# EAGLE library part AK7401 (library my library)
Non-contact magnetic encoder
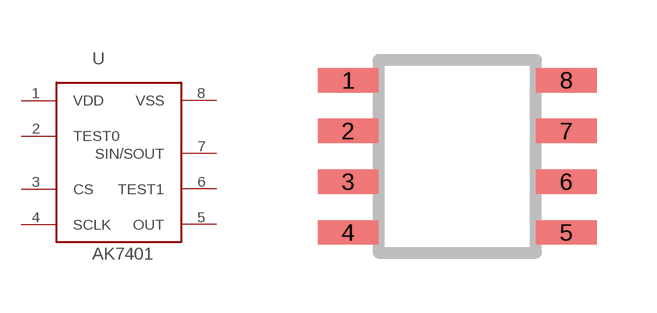
[diagram p3: symbol with the pads of SOIC-8; footprint SOIC-8]

Designator prefix -

## AK7401  [SOIC-8]
1  VDD
2  TEST0
3  CS
4  SCLK
5  OUT
6  TEST1
7  SIN/SOUT
8  VSS

## Footprint SOIC-8 (pad centres in mm)
smd 1.524 x 0.61: 1 0,3.81; 2 0,2.54; 3 0,1.27; 4 0,0; 5 5.461,0; 6 5.461,1.27; 7 5.461,2.54; 8 5.461,3.81